# EAGLE library part 632723100011 (library USB3_Wuerth_Horizontal)
WR-COM USB 3.1 Type C Receptacle Horizontal THT/SMT Kind Properties Durability:10 000 Mating cycles Connector Type:USB 3.1 Type C Gender:Receptacle Type:Horizontal General Information Operating Temperature:-40up to +105 °C Compliance:RoHS Electrical Properties Working Voltage:20V (DC) Withstanding Voltage:100V (AC) Contact Resistance:30 mΩ Material Properties Insulator Material:LCP Insulator Flammability Rating:UL94 V-0 Color:Black Contact Material:Brass Contact Plating:2µ” Gold over 30µ” Pd-Ni Contact Type:Stamped Shielding Material:Steel Shielding Plating:Matte Tin <https://www.we-online.com/catalog/media/o144501v209%20Family_WR-COM_632723x00011.jpg> Details see: https://www.we-online.com/catalog/en/COM_3_1_THR_SMT_TYPE_C_RECEPTACLE_HORIZONTAL/ Updated by Ella Wu 2020-08-05 2020 (C) Würth Elektronik
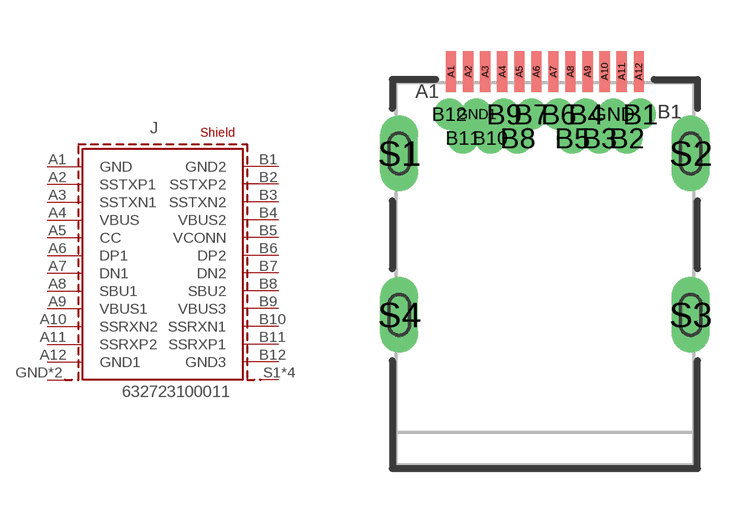
[diagram p28: symbol with the pads of 632723100011; footprint 632723100011]

Designator prefix J

## 632723100011 (APPLICATION: USB 3.1; DATASHEET-URL: https://www.we-online.com/catalog/datasheet/632723100011 .pdf; GERDER: Receptacle; INTERFACE-TYPE: Type C; IR1: 5A; MOUNT: THR; PACKAGING: Tape and Reel; PART-NUMBER: 632723100011; PINS: 24; TYPE: Horizontal; VALUE: 632723100011; WORKING-VOLTAGE: 20V(DC))  [632723100011]
A1  GND  pas
A2  SSTXP1  pas
A3  SSTXN1  pas
A4  VBUS  pas
A5  CC  pas
A6  DP1  pas
A7  DN1  pas
A8  SBU1  pas
A9  VBUS1  pas
A10  SSRXN2  pas
A11  SSRXP2  pas
A12  GND1  pas
B1  GND2  pas
B2  SSTXP2  pas
B3  SSTXN2  pas
B4  VBUS2  pas
B5  VCONN  pas
B6  DP2  pas
B7  DN2  pas
B8  SBU2  pas
B9  VBUS3  pas
B10  SSRXN1  pas
B11  SSRXP1  pas
B12  GND3  pas
GND  SHIELD  pas
GND1  SHIELD  pas
S1  SHIELD1  pas
S2  SHIELD1  pas
S3  SHIELD1  pas
S4  SHIELD1  pas

## Footprint 632723100011 (pad centres in mm)
WR-COM USB 3.1 Type C Receptacle Horizontal THT / SMT
smd 0.3 x 1.2: A1 -2.75,5.93; A2 -2.25,5.93; A3 -1.75,5.93; A4 -1.25,5.93; A5 -0.75,5.93; A6 -0.25,5.93; A7 0.25,5.93; A8 0.75,5.93; A9 1.25,5.93; A10 1.75,5.93; A11 2.25,5.93; A12 2.75,5.93
drill 0.4 pad 0.65: B1 2.8,4.68; B2 2.4,3.98; B3 1.6,3.98; B4 1.2,4.68; B5 0.8,3.98; B6 0.4,4.68; B7 -0.4,4.68; B8 -0.8,3.98; B9 -1.2,4.68; B10 -1.6,3.98; B11 -2.4,3.98; B12 -2.8,4.68; GND 2,4.68; GND1 -2,4.68
drill 0.6 pad 1 long: S1 -4.27,3.53; S2 4.27,3.53; S3 4.27,-1.2; S4 -4.27,-1.2